# Altium footprint library SOP.PcbLib: 50 footprints (part 2 of 4)
Each footprint in its own frame and in the unit in brackets; x right, y up, seen from the top. Pads: shape width x height; smd on the part's side, far side on the other; paste and mask are expansions set on the pad; w line width, h text height; cw(c..) or ccw(c..) is an arc to the next point about the centre after c.
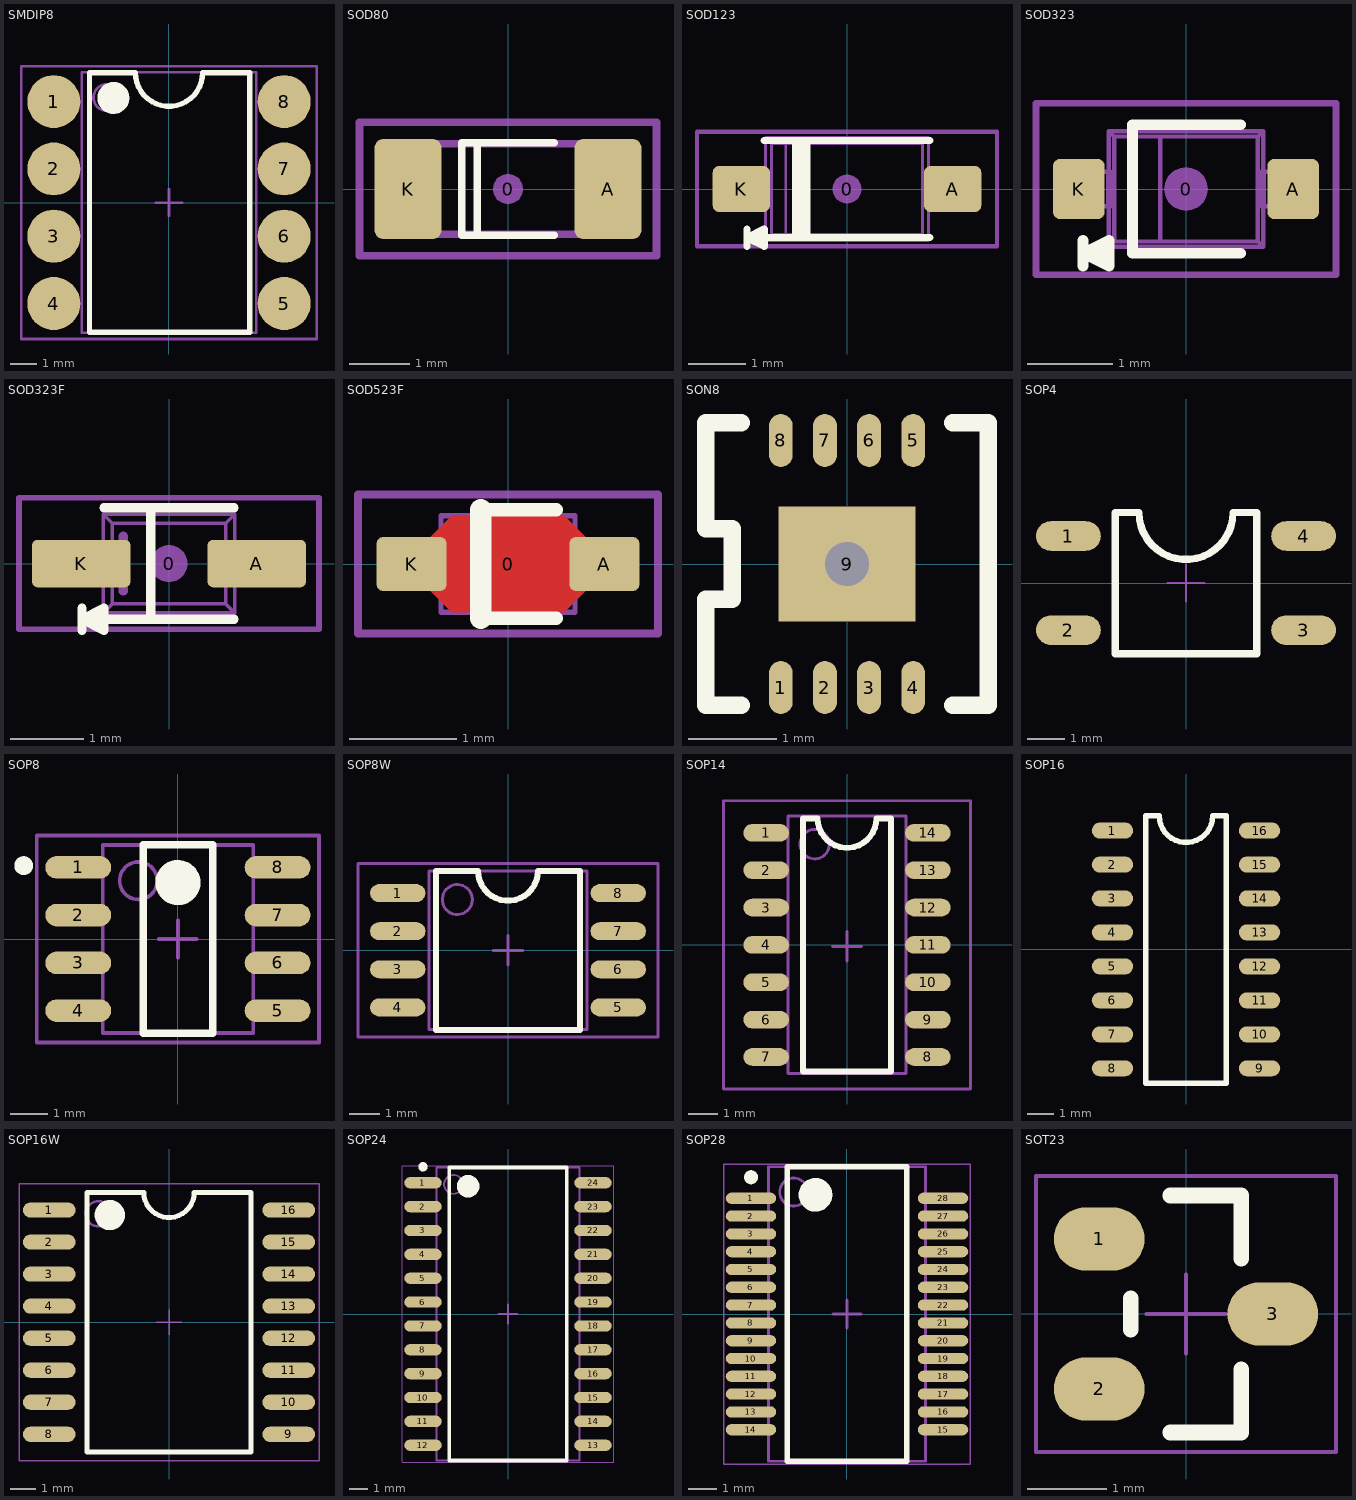
[diagram p1: the footprints below, top view; thin cyan lines are the x and y axes]

## SMDIP8 [mm]
height 3.68
pads (8):
  round 2 smd: 1(-4.35,3.81) 2(-4.35,1.27) 3(-4.35,-1.27) 4(-4.35,-3.81) 5(4.35,-3.81) 6(4.35,-1.27) 7(4.35,1.27) 8(4.35,3.81)
Top Overlay:
  circle w0.6: c-2.1,3.95 r0.3
  lines w0.2: -3,-4.9 3.05,-4.9 3.05,4.905 1.27,4.905 cw(c0,4.905) -1.27,4.905 -3,4.905 -3,-4.9
Mechanical 13:
  circle w0.1: c-2.35,3.965 r0.5
  lines w0.1: -3.3,-4.915 3.3,-4.915 3.3,4.915 -3.3,4.915 -3.3,-4.915
Mechanical 15:
  lines w0.1: -0.5,0 0.5,0 ; 0,-0.5 0,0.5 ; -5.575,-5.15 5.575,-5.15 5.575,5.15 -5.575,5.15 -5.575,-5.15
3D body "SMD-8B.STEP": height 4.02, standoff 0.02, extent -4.9,-4.925 4.9,4.925

## SOD80 [mm] "Diode, MiniMELF"
height 1.6
pads (3):
  round 0.5 on Mech15: 0(0,0)
  rrect25% 1.1x1.65 smd: A(1.65,0) K(-1.65,0)
Top Overlay:
  lines w0.127: -0.508,-0.762 -0.508,0.762 ; 0.762,-0.762 -0.762,-0.762 -0.762,0.762 0.762,0.762
Mechanical 13:
  lines w0.127: -1.8,-0.747 1.8,-0.747 1.8,0.747 -1.8,0.747 -1.8,-0.747
Mechanical 15:
  lines w0.127: -2.45,-1.1 2.45,-1.1 2.45,1.1 -2.45,1.1 -2.45,-1.1
3D body "SOD80.stp": height 1.47, standoff -0.01, extent -1.8,-0.747 1.8,0.747

## SOD123 [mm] "SOD-123; 2 Leads; Body 2.7 x 1.6 mm, (LxW)"
height 1.35
pads (3):
  round 0.508 on Mech15: 0(0,0)
  rrect25% 1x0.8 smd: A(1.85,0) K(-1.85,0)
Top Overlay:
  lines w0.127: -1.75,-1 -1.75,-0.7 ; -1.45,0.85 1.45,0.85 ; -0.9,-0.85 -0.9,0.85 ; -0.8,-0.85 -0.8,0.85 ; -0.7,-0.85 -0.7,0.85 ; 1.448,-0.85 -1.45,-0.85 -1.75,-0.85 ; -1.75,-0.85 -1.45,-1 -1.45,-0.7 -1.75,-0.85
Mechanical 13:
  lines w0.05: -1.766,-0.308 -1.766,0.308 ; -1.707,-0.308 -1.707,0.308 ; -1.517,-0.308 -1.517,0.308 ; -1.425,-0.308 -1.95,-0.308 -1.95,0.308 -1.425,0.308 ; 1.425,-0.308 1.95,-0.308 1.95,0.308 1.425,0.308 ; 1.517,-0.308 1.517,0.308 ; 1.707,-0.308 1.707,0.308 ; 1.766,-0.308 1.766,0.308 ; -1.425,-0.9 1.425,-0.9 ; -1.425,-0.9 -1.323,-0.798 ; -1.425,-0.9 -1.425,0.9 ; -1.425,0.9 -1.323,0.798 ; -1.425,0.9 1.425,0.9 ; -1.323,-0.798 -1.072,-0.798 ; -1.323,-0.798 -1.323,0.798 ; -1.323,0.798 -1.072,0.798 ; -1.072,-0.798 1.322,-0.797 ; -1.072,-0.798 -1.072,0.798 ; -1.072,0.798 1.322,0.797 ; 1.322,-0.797 1.322,0.797 ; 1.322,-0.797 1.425,-0.9 ; 1.322,0.797 1.425,0.9 ; 1.425,-0.9 1.425,0.9
Mechanical 15:
  lines w0.076: -2.625,-1 2.625,-1 2.625,1 -2.625,1 -2.625,-1
3D body "SOD123.STEP": height 1.18, standoff 0, extent -1.95,-0.9 1.95,0.9

## SOD323 [mm] "SOD-323; 2 Leads; Body 1.8 x 1.35 mm, (LxW)"
height 1.15
pads (3):
  round 0.508 on Mech15: 0(0,0)
  rrect25% 0.6x0.7 smd: A(1.25,0) K(-1.25,0)
Top Overlay:
  lines w0.127: -1.2,-0.9 -1.2,-0.6 ; -0.9,-0.75 -1.2,-0.75 ; 0.635,-0.75 -0.625,-0.75 -0.625,0.75 0.635,0.75 ; -1.2,-0.75 -0.9,-0.9 -0.9,-0.6 -1.2,-0.75
Mechanical 13:
  lines w0.05: -1.157,-0.2 -1.157,0.2 ; -1.11,-0.2 -1.11,0.2 ; -0.91,-0.2 -0.91,0.2 ; -0.9,-0.2 -0.9,-0.675 ; -0.9,0.2 -0.9,0.675 ; 0.9,-0.2 0.9,-0.675 ; 0.9,0.2 0.9,0.675 ; 0.91,-0.2 0.91,0.2 ; 1.11,-0.2 1.11,0.2 ; 1.157,-0.2 1.157,0.2 ; -0.9,-0.675 -0.838,-0.613 ; -0.9,-0.675 0.9,-0.675 ; -0.9,0.675 0.9,0.675 ; -0.9,0.675 -0.838,0.613 ; -0.838,-0.613 -0.838,0.613 ; -0.838,-0.613 -0.3,-0.613 ; -0.838,0.613 -0.3,0.613 ; -0.3,-0.613 -0.3,0.613 ; -0.3,-0.613 0.838,-0.613 ; -0.3,0.613 0.838,0.613 ; 0.838,-0.613 0.838,0.613 ; 0.838,-0.613 0.9,-0.675 ; 0.838,0.613 0.9,0.675 ; -1.3,-0.2 -1.3,0.2 -0.879,0.2 -0.879,-0.2 -1.3,-0.2 ; 0.879,-0.2 1.3,-0.2 1.3,0.2 0.879,0.2 0.879,-0.2
Mechanical 15:
  lines w0.076: -1.75,-1 -1.75,1 1.75,1 1.75,-1 -1.75,-1
3D body "SOD323.STEP": height 1.1, standoff 0, extent -1.3,-0.675 1.3,0.675

## SOD323F [mm] "SOD-323; 2 Leads; Body 2.7 x 1.6 mm, (LxW)"
height 1.35
pads (3):
  round 0.508 on Mech15: 0(0,0)
  rrect25% 1.35x0.65 smd: A(1.2,0) K(-1.2,0)
Top Overlay:
  lines w0.127: -1.189,-0.912 -1.189,-0.612 ; -0.889,0.762 0.889,0.762 ; -0.25,-0.762 -0.25,0.762 ; 0.889,-0.762 -0.889,-0.762 -1.189,-0.762 ; -1.189,-0.762 -0.889,-0.612 -0.889,-0.912 -1.189,-0.762
Mechanical 13:
  lines w0.05: -0.9,-0.2 -1.25,-0.2 -1.25,0.2 -0.9,0.2 ; 0.9,-0.2 1.25,-0.2 1.25,0.2 0.9,0.2 ; -0.9,-0.675 0.9,-0.675 ; -0.9,-0.675 -0.9,0.675 ; -0.9,-0.675 -0.776,-0.551 ; -0.9,0.675 0.9,0.675 ; -0.9,0.675 -0.776,0.551 ; -0.776,-0.551 0.776,-0.551 ; -0.776,-0.551 -0.776,0.551 ; -0.776,0.551 0.776,0.551 ; 0.776,-0.551 0.9,-0.675 ; 0.776,-0.551 0.776,0.551 ; 0.776,0.551 0.9,0.675 ; 0.9,-0.675 0.9,0.675
  lines w0.127: -0.625,-0.375 -0.625,0.375
Mechanical 15:
  lines w0.076: -2.05,-0.9 -2.05,0.9 2.05,0.9 2.05,-0.9 -2.05,-0.9
3D body "SOD323F.STEP": height 1, standoff 0, extent -1.25,-0.675 1.25,0.675

## SOD523F [mm] "SOD-523F; 2 Leads; Body 1.3 x 0.9 mm, (LxW)"
height 0.7
pads (3):
  round 0.508 on Mech15: 0(0,0)
  rrect20% 0.65x0.5 smd: A(0.9,0) K(-0.9,0)
Top Layer:
  pour cut-out: -0.725,-0.25 -0.725,0.25 -0.525,0.45 0.525,0.45 0.725,0.25 0.725,-0.25 0.525,-0.45 -0.525,-0.45
Top Overlay:
  lines w0.127: -0.254,-0.508 0.45,-0.508 ; -0.254,0.508 0.45,0.508
  lines w0.2: -0.254,-0.508 -0.254,0.508
  text "." at -0.9,-0.625 h0.05
Mechanical 13:
  lines w0.05: -0.625,-0.175 -0.85,-0.175 -0.85,0.175 -0.625,0.175 ; -0.625,-0.175 -0.625,-0.45 0.625,-0.45 0.625,-0.175 ; -0.625,-0.175 -0.625,0.175 ; -0.625,0.175 -0.625,0.45 0.625,0.45 0.625,0.175 ; 0.625,-0.175 0.85,-0.175 0.85,0.175 0.625,0.175 ; 0.625,-0.175 0.625,0.175
  lines w0.127: -0.425,-0.275 -0.425,0.275
Mechanical 15:
  lines w0.076: -1.4,-0.65 -1.4,0.65 1.4,0.65 1.4,-0.65 -1.4,-0.65
3D body "SOD-523F.STEP": height 0.7, standoff 0, extent -0.85,-0.45 0.85,0.45

## SON8 [mm]
pads (9):
  oval 0.27x0.6 smd mask+0.05: 1(-0.75,-1.4) 2(-0.25,-1.4) 3(0.25,-1.4) 4(0.75,-1.4) 5(0.75,1.4) 6(0.25,1.4) 7(-0.25,1.4) 8(-0.75,1.4)
  rect 1.55x1.3 smd mask+0.05: 9(0,0)
via 0,0 diameter 1 hole 0.5
Top Overlay:
  lines w0.2: -1.2,-1.6 -1.6,-1.6 -1.6,-0.4 -1.3,-0.4 -1.3,0.4 -1.6,0.4 -1.6,1.6 -1.2,1.6 ; 1.2,-1.6 1.6,-1.6 1.6,1.6 1.2,1.6
3D body: height 0.8, standoff 0, extent -1.5,-1.5 1.5,1.5

## SOP4 [mm]
pads (4):
  oval 1.75x0.8 smd mask+0.1: 1(-3.175,1.27) 2(-3.175,-1.27) 3(3.175,-1.27) 4(3.175,1.27)
Top Overlay:
  lines w0.2: -1.905,-1.905 1.905,-1.905 1.905,1.905 1.27,1.905 cw(c0,1.905) -1.27,1.905 -1.905,1.905 -1.905,-1.905
Mechanical 15:
  lines w0.05: -0.5,0 0.5,0 ; 0,-0.5 0,0.5
3D body "User Library-VOM618A.step": height 2.1, standoff 0, extent -3.503,-1.925 3.504,1.925

## SOP8 [mm] "SOP, 8-Leads"
height 1.75
pads (8):
  oval 1.75x0.6 smd mask+0.1: 1(-2.65,1.905) 2(-2.65,0.635) 3(-2.65,-0.635) 4(-2.65,-1.905) 5(2.65,-1.905) 6(2.65,-0.635) 7(2.65,0.635) 8(2.65,1.905)
Top Overlay:
  circle w0.6: c0,1.5 r0.3
  circle w0.25: c-4.1,1.95 r0.125
  lines w0.2: -0.925,-2.5 -0.925,2.5 0.925,2.5 0.925,-2.5 -0.925,-2.5
Mechanical 1:
  circle w0.1: c-1.05,1.55 r0.5
  lines w0.1: -2,-2.5 -2,2.5 2,2.5 2,-2.5 -2,-2.5
Mechanical 15:
  lines w0.1: -0.5,0 0.5,0 ; 0,-0.5 0,0.5 ; -3.75,-2.75 -3.75,2.75 3.75,2.75 3.75,-2.75 -3.75,-2.75
3D body "User Library-SOIC08-150.step": height 1.77, standoff 0.02, extent -2.9,-2.4 2.9,2.4

## SOP8W [mm]
height 2.15
pads (8):
  oval 1.85x0.6 smd: 1(-3.675,1.905) 2(-3.675,0.635) 3(-3.675,-0.635) 4(-3.675,-1.905) 5(3.675,-1.905) 6(3.675,-0.635) 7(3.675,0.635) 8(3.675,1.905)
Top Overlay:
  lines w0.2: -2.4,-2.65 2.4,-2.65 2.4,2.65 1,2.65 cw(c0,2.65) -1,2.65 -2.4,2.65 -2.4,-2.65
Mechanical 13:
  circle w0.1: c-1.69,1.69 r0.5
  lines w0.1: -2.64,-2.64 2.64,-2.64 2.64,2.64 -2.64,2.64 -2.64,-2.64
Mechanical 15:
  lines w0.1: -0.5,0 0.5,0 ; 0,-0.5 0,0.5 ; -5,-2.9 5,-2.9 5,2.9 -5,2.9 -5,-2.9
3D body "SOIC8_Wide_5mmx5mm.STEP": height 1.66, standoff -0.09, extent -4.051,-2.73 4.05,2.73

## SOP14 [mm] "14-Pin Small Outline Integrated Circuit 1.27 mm Pitch, IPC Low Density"
height 1.75
pads (14):
  oval 1.55x0.6 smd mask+0.1: 1(-2.75,3.81) 2(-2.75,2.54) 3(-2.75,1.27) 4(-2.75,0) 5(-2.75,-1.27) 6(-2.75,-2.54) 7(-2.75,-3.81) 8(2.75,-3.81) 9(2.75,-2.54) 10(2.75,-1.27) 11(2.75,0) 12(2.75,1.27) 13(2.75,2.54) 14(2.75,3.81)
Top Overlay:
  lines w0.2: -1.5,-4.3 1.5,-4.3 1.5,4.3 1,4.3 cw(c0,4.3) -1,4.3 -1.5,4.3 -1.5,-4.3
Mechanical 13:
  circle w0.1: c-1.1,3.425 r0.5
  lines w0.1: -2,-4.375 -2,4.375 2,4.375 2,-4.375 -2,-4.375
Mechanical 15:
  lines w0.1: -0.5,-0.05 0.5,-0.05 ; 0,-0.55 0,0.45 ; -4.2,-4.9 -4.2,4.9 4.2,4.9 4.2,-4.9 -4.2,-4.9
3D body "User Library-SOIC127P600-14.step": height 1.66, standoff 0.01, extent -3.04,-4.3 3.04,4.3

## SOP16 [mm] "SOP16"
height 2.65
pads (16):
  oval 1.55x0.6 smd mask+0.1: 1(-2.75,4.445) 2(-2.75,3.175) 3(-2.75,1.905) 4(-2.75,0.635) 5(-2.75,-0.635) 6(-2.75,-1.905) 7(-2.75,-3.175) 8(-2.75,-4.445) 9(2.75,-4.445) 10(2.75,-3.175) 11(2.75,-1.905) 12(2.75,-0.635) 13(2.75,0.635) 14(2.75,1.905) 15(2.75,3.175) 16(2.75,4.445)
Top Overlay:
  lines w0.2: -1.5,-5 1.5,-5 1.5,5 1,5 cw(c0,5) -1,5 -1.5,5 -1.5,-5
3D body "User Library-SOIC127P600X175-16.step": height 1.65, standoff 0, extent -3.04,-5 3.04,5

## SOP16W [mm] "SOP16W"
height 2.65
pads (16):
  oval 2.1x0.6 smd mask+0.1: 1(-4.75,4.445) 2(-4.75,3.175) 3(-4.75,1.905) 4(-4.75,0.635) 5(-4.75,-0.635) 6(-4.75,-1.905) 7(-4.75,-3.175) 8(-4.75,-4.445) 9(4.75,-4.445) 10(4.75,-3.175) 11(4.75,-1.905) 12(4.75,-0.635) 13(4.75,0.635) 14(4.75,1.905) 15(4.75,3.175) 16(4.75,4.445)
Top Overlay:
  circle w0.6: c-2.35,4.25 r0.3
  lines w0.2: -3.25,-5.15 3.25,-5.15 3.25,5.15 1,5.15 cw(c0,5.15) -1,5.15 -3.25,5.15 -3.25,-5.15
Mechanical 13:
  circle w0.1: c-2.8,4.3 r0.5
Mechanical 15:
  lines w0.05: -0.5,0 0.5,0 ; 0,-0.5 0,0.5 ; -5.95,-5.5 -5.95,5.5 5.95,5.5 5.95,-5.5 -5.95,-5.5
3D body "User Library-SOIC16-300.step": height 2.67, standoff 0.02, extent -5.15,-5.15 5.15,5.15

## SOP24 [mm]
height 2.65
pads (24):
  oval 2x0.6 smd: 1(-4.525,6.985) 2(-4.525,5.715) 3(-4.525,4.445) 4(-4.525,3.175) 5(-4.525,1.905) 6(-4.525,0.635) 7(-4.525,-0.635) 8(-4.525,-1.905) 9(-4.525,-3.175) 10(-4.525,-4.445) 11(-4.525,-5.715) 12(-4.525,-6.985) 13(4.525,-6.985) 14(4.525,-5.715) 15(4.525,-4.445) 16(4.525,-3.175) 17(4.525,-1.905) 18(4.525,-0.635) 19(4.525,0.635) 20(4.525,1.905) 21(4.525,3.175) 22(4.525,4.445) 23(4.525,5.715) 24(4.525,6.985)
Top Overlay:
  circle w0.6: c-2.125,6.8 r0.3
  circle w0.25: c-4.525,7.835 r0.125
  lines w0.2: -3.125,-7.8 3.125,-7.8 3.125,7.8 -3.125,7.8 -3.125,-7.8
Mechanical 13:
  circle w0.1: c-2.9,6.9 r0.5
  lines w0.1: -3.8,-7.8 3.8,-7.8 3.8,7.8 -3.8,7.8 -3.8,-7.8
Mechanical 15:
  lines w0.05: -5.625,-7.9 5.625,-7.9 5.625,7.9 -5.625,7.9 -5.625,-7.9
  lines w0.1: -0.5,0 0.5,0 ; 0,-0.5 0,0.5
3D body: height 2.65, standoff 0.1, extent -3.8,-7.8 3.8,7.8

## SOP28 [mm]
height 2
pads (28):
  oval 1.8x0.4 smd: 1(-3.425,4.127) 2(-3.425,3.492) 3(-3.425,2.857) 4(-3.425,2.222) 5(-3.425,1.587) 6(-3.425,0.953) 7(-3.425,0.318) 8(-3.425,-0.318) 9(-3.425,-0.953) 10(-3.425,-1.587) 11(-3.425,-2.222) 12(-3.425,-2.857) 13(-3.425,-3.492) 14(-3.425,-4.127) 15(3.425,-4.127) 16(3.425,-3.492) 17(3.425,-2.857) 18(3.425,-2.222) 19(3.425,-1.587) 20(3.425,-0.953) 21(3.425,-0.318) 22(3.425,0.318) 23(3.425,0.953) 24(3.425,1.587) 25(3.425,2.222) 26(3.425,2.857) 27(3.425,3.492) 28(3.425,4.127)
Top Overlay:
  circle w0.25: c-3.425,4.878 r0.125
  circle w0.6: c-1.125,4.25 r0.3
  lines w0.2: -2.125,-5.25 -2.125,5.25 2.125,5.25 2.125,-5.25 -2.125,-5.25
Mechanical 13:
  circle w0.1: c-1.9,4.35 r0.5
  lines w0.1: -2.8,-5.25 -2.8,5.25 2.8,5.25 2.8,-5.25 -2.8,-5.25
Mechanical 15:
  lines w0.05: -4.4,-5.35 -4.4,5.35 4.4,5.35 4.4,-5.35 -4.4,-5.35
  lines w0.1: -0.5,0 0.5,0 ; 0,-0.5 0,0.5
3D body: height 2, standoff 0.1, extent -2.8,-5.25 2.8,5.25

## SOT23 [mm]
pads (3):
  oval 1.15x0.8 smd mask+0.1: 1(-1.1,0.95) 2(-1.1,-0.95) 3(1.1,0)
Top Overlay:
  lines w0.2: -0.7,-0.2 -0.7,0.2 ; -0.2,-1.5 0.7,-1.5 0.7,-0.7 ; -0.2,1.5 0.7,1.5 0.7,0.7
Mechanical 15:
  lines w0.05: -0.5,0 0.5,0 ; 0,-0.5 0,0.5 ; -1.9,-1.75 1.9,-1.75 1.9,1.75 -1.9,1.75 -1.9,-1.75
3D body "User Library-sot23-1.step": height 1, standoff 0, extent -1.163,-1.46 1.177,1.46